# Altium footprint library DO5022P.PcbLib: 1 footprints
Each footprint in its own frame and in the unit in brackets; x right, y up, seen from the top. Pads: shape width x height; smd on the part's side, far side on the other; paste and mask are expansions set on the pad; w line width, h text height; cw(c..) or ccw(c..) is an arc to the next point about the centre after c.
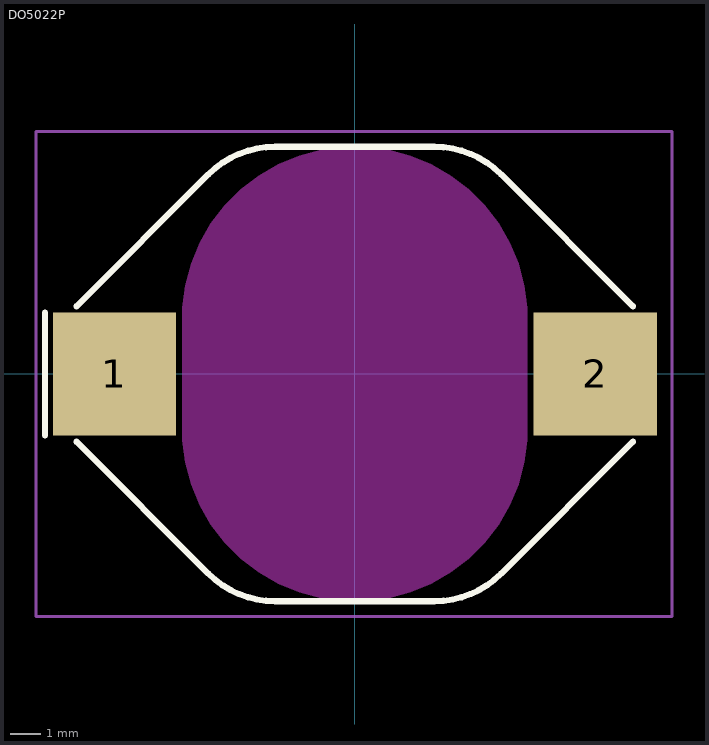
[diagram p0: the footprint, top view; thin cyan lines are the x and y axes]

## DO5022P [mm]
pads (2):
  rect 4x4 smd: 1(-7.8,0) 2(7.8,0)
Top Layer keep-out:
  region: 0,7.375 0.367,7.375 1.095,7.279 1.804,7.089 2.482,6.808 3.118,6.441 3.7,5.994 4.219,5.475 4.666,4.893 5.033,4.257 5.314,3.579 5.504,2.87 5.6,2.142 5.6,1.775 5.6,-1.775 5.6,-2.142 5.504,-2.87 5.314,-3.579 5.033,-4.257 4.666,-4.893 4.219,-5.475 3.7,-5.994 3.118,-6.441 2.482,-6.808 1.804,-7.089 1.095,-7.279 0.367,-7.375 0,-7.375 -0.367,-7.375 -1.095,-7.279 -1.804,-7.089 -2.482,-6.808 -3.118,-6.441 -3.7,-5.994 -4.219,-5.475 -4.666,-4.893 -5.033,-4.257 -5.314,-3.579 -5.504,-2.87 -5.6,-2.142 -5.6,-1.775 -5.6,1.775 -5.6,2.142 -5.504,2.87 -5.314,3.579 -5.033,4.257 -4.666,4.893 -4.219,5.475 -3.7,5.994 -3.118,6.441 -2.482,6.808 -1.804,7.089 -1.095,7.279 -0.367,7.375
Top Overlay:
  lines w0.2: -10.05,-2 -10.05,2 ; -9.025,-2.2 -4.748,-6.477 ccw(c-2.58,-4.309) -2.58,-7.375 0,-7.375 2.58,-7.375 ccw(c2.58,-4.309) 4.748,-6.477 9.025,-2.2 ; -9.025,2.2 -4.748,6.477 cw(c-2.58,4.309) -2.58,7.375 0,7.375 2.58,7.375 cw(c2.58,4.309) 4.748,6.477 9.025,2.2
Top Courtyard:
  lines w0.1: -10.35,-7.875 0.184,-7.875 10.3,-7.875 10.3,7.875 -10.35,7.875 -10.35,-7.875
3D body "Coilcraft-DO5022P.step": height 7.1, standoff 0, extent -9.017,-7.366 9.017,7.366